# Altium footprint library generic 32u4 lib 1.PcbLib: 18 footprints (part 1 of 2)
Each footprint in its own frame and in the unit in brackets; x right, y up, seen from the top. Pads: shape width x height; smd on the part's side, far side on the other; paste and mask are expansions set on the pad; w line width, h text height; cw(c..) or ccw(c..) is an arc to the next point about the centre after c.
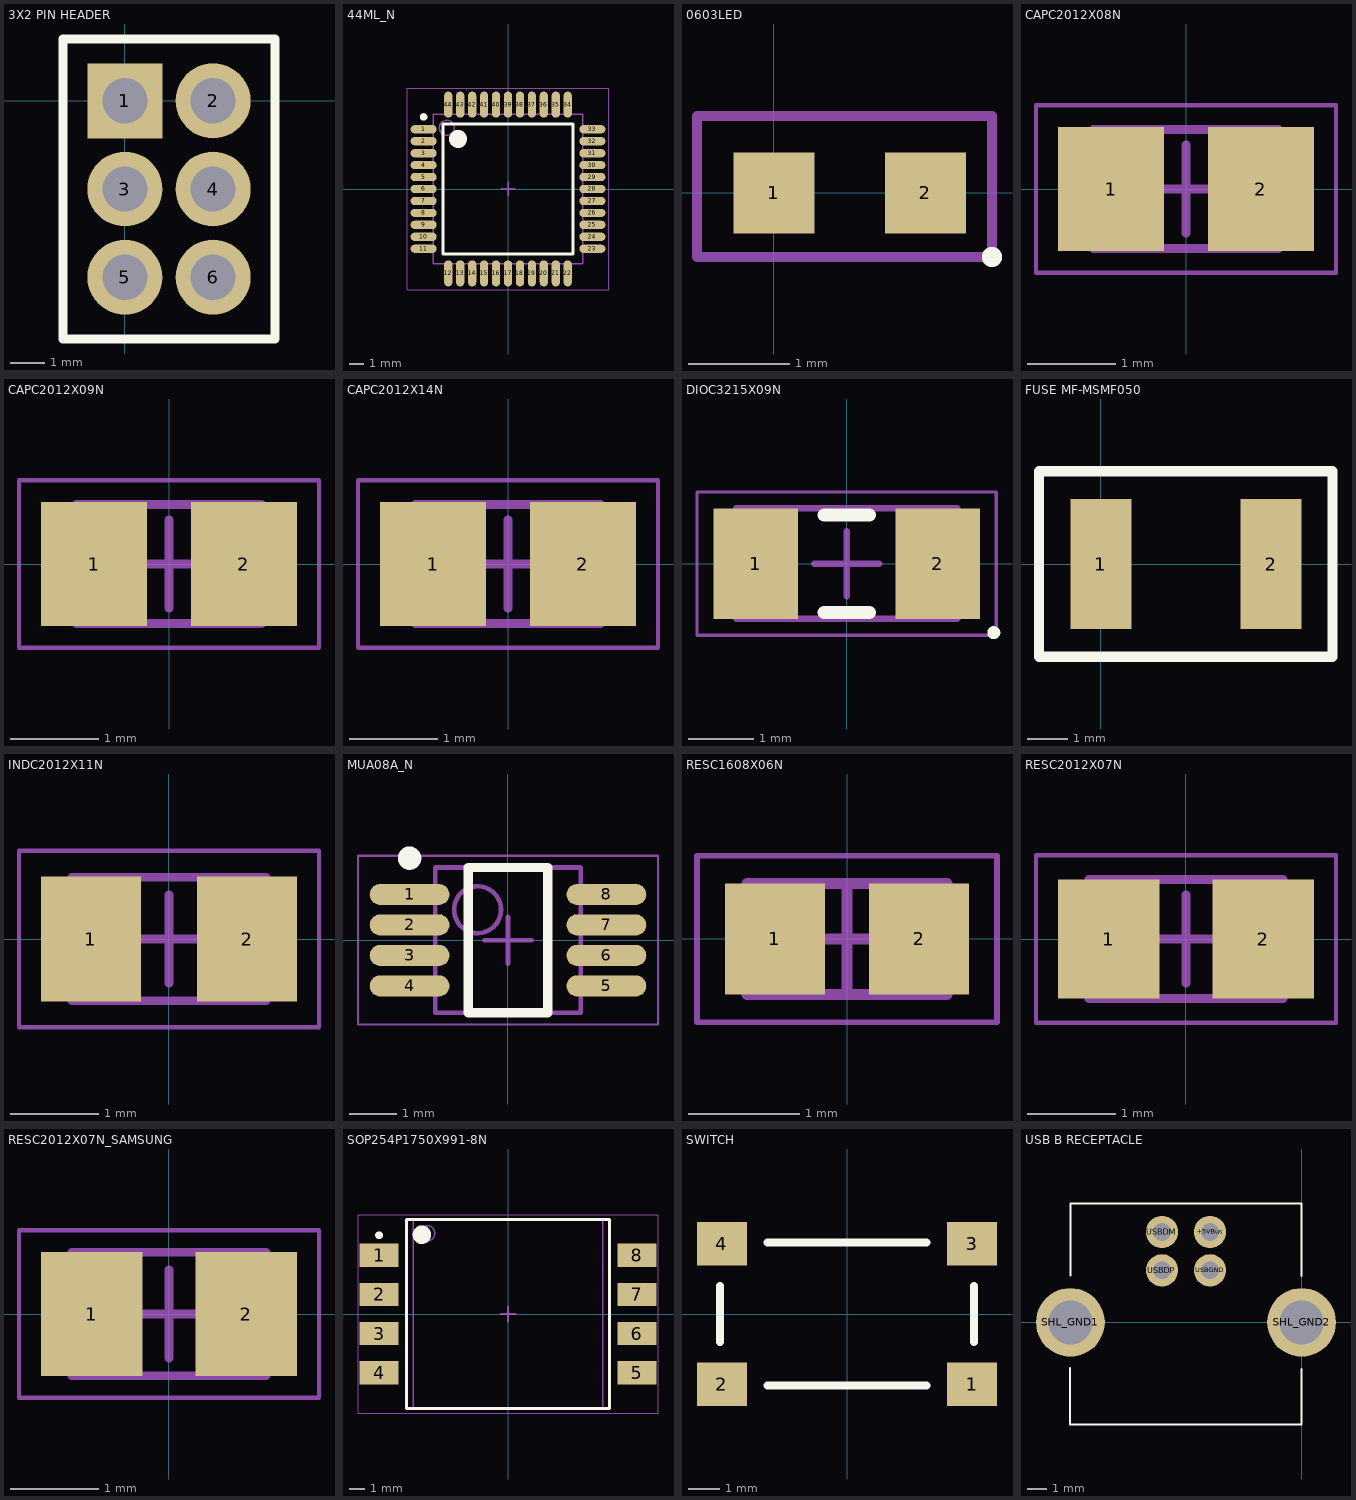
[diagram p0: the footprints below, top view; thin cyan lines are the x and y axes]

## 3X2 PIN HEADER [mil] "0.100\" Pin Header"
height 269.29
pads (6):
  rect 85x85 hole 51.18: 1(0,0)
  round 85 hole 51.18: 2(100,0) 3(0,-100) 4(100,-100) 5(0,-200) 6(100,-200)
Top Overlay:
  lines w10: -70,-270 -70,35 -70,70 170,70 170,-270 -70,-270
  text "." at -120,5 h39.37
3D body "User Library-IDC6.STEP": height 318.07, standoff -115, extent -50,-250 150,50

## 44ML_N [mm] "Thin QFP, 44-Leads, Body 10x10mm, Pitch 0.8mm, IPC Medium Density"
height 1.2
pads (44):
  oval 1.75x0.55 smd: 1(-5.65,4) 2(-5.65,3.2) 3(-5.65,2.4) 4(-5.65,1.6) 5(-5.65,0.8) 6(-5.65,0) 7(-5.65,-0.8) 8(-5.65,-1.6) 9(-5.65,-2.4) 10(-5.65,-3.2) 11(-5.65,-4) 23(5.65,-4) 24(5.65,-3.2) 25(5.65,-2.4) 26(5.65,-1.6) 27(5.65,-0.8) 28(5.65,0) 29(5.65,0.8) 30(5.65,1.6) 31(5.65,2.4) 32(5.65,3.2) 33(5.65,4)
  oval 0.55x1.75 smd: 12(-4,-5.65) 13(-3.2,-5.65) 14(-2.4,-5.65) 15(-1.6,-5.65) 16(-0.8,-5.65) 17(0,-5.65) 18(0.8,-5.65) 19(1.6,-5.65) 20(2.4,-5.65) 21(3.2,-5.65) 22(4,-5.65) 34(4,5.65) 35(3.2,5.65) 36(2.4,5.65) 37(1.6,5.65) 38(0.8,5.65) 39(0,5.65) 40(-0.8,5.65) 41(-1.6,5.65) 42(-2.4,5.65) 43(-3.2,5.65) 44(-4,5.65)
Top Overlay:
  circle w0.6: c-3.35,3.35 r0.3
  circle w0.25: c-5.65,4.825 r0.125
  lines w0.2: -4.35,-4.35 4.35,-4.35 4.35,4.35 -4.35,4.35 -4.35,-4.35
Top Solder:
  rectangle: -4.394,4.674 4.394,6.629
  rectangle: -4.394,-6.629 4.394,-4.674
  region: 6.629,-4.394 6.629,4.394 4.674,4.394 4.674,-4.394
  region: -4.674,-4.394 -4.674,4.394 -6.629,4.394 -6.629,-4.394
Mechanical 13:
  circle w0.1: c-4.1,4.1 r0.5
  lines w0.1: -5,-5 5,-5 5,5 -5,5 -5,-5
Mechanical 15:
  lines w0.05: -6.75,-6.75 6.75,-6.75 6.75,6.75 -6.75,6.75 -6.75,-6.75
  lines w0.1: -0.5,0 0.5,0 ; 0,-0.5 0,0.5
3D body: height 1.2, standoff 0, extent -5,-5 5,5

## 0603LED [mm] "0603LED"
height 0.67
pads (2):
  rect 0.8x0.8 smd: 1(0,0) 2(1.5,0)
Top Overlay:
  circle w0.1: c2.159,-0.635 r0.05
Mechanical 15:
  lines w0.1: -0.762,-0.635 -0.762,0.762 2.159,0.762 2.159,-0.635 -0.762,-0.635
3D body "User Library-LED_0603_R.STEP": height 0.6, standoff 0, extent -0.038,-0.403 1.562,0.397

## CAPC2012X08N [mm] "Chip Capacitor, 2-Leads, Body 2.00x1.25mm, IPC Medium Density"
height 0.75
pads (2):
  rect 1.2x1.4 smd: 1(-0.85,0) 2(0.85,0)
Mechanical 13:
  lines w0.1: -1.05,-0.675 1.05,-0.675 1.05,0.675 -1.05,0.675 -1.05,-0.675
Mechanical 15:
  lines w0.05: -1.7,-0.95 1.7,-0.95 1.7,0.95 -1.7,0.95 -1.7,-0.95
  lines w0.1: -0.5,0 0.5,0 ; 0,-0.5 0,0.5
3D body "CAPC2012X08N.step": height 0.75, standoff 0, extent -1.05,-0.675 1.05,0.675

## CAPC2012X09N [mm] "Chip Capacitor, 2-Leads, Body 2.00x1.25mm, IPC Medium Density"
height 0.95
pads (2):
  rect 1.2x1.4 smd: 1(-0.85,0) 2(0.85,0)
Mechanical 13:
  lines w0.1: -1.05,-0.675 1.05,-0.675 1.05,0.675 -1.05,0.675 -1.05,-0.675
Mechanical 15:
  lines w0.05: -1.7,-0.95 1.7,-0.95 1.7,0.95 -1.7,0.95 -1.7,-0.95
  lines w0.1: -0.5,0 0.5,0 ; 0,-0.5 0,0.5
3D body "CAPC2012X09N.step": height 0.95, standoff 0, extent -1.05,-0.675 1.05,0.675

## CAPC2012X14N [mm] "Chip Capacitor, 2-Leads, Body 2.00x1.25mm, IPC Medium Density"
height 1.35
pads (2):
  rect 1.2x1.4 smd: 1(-0.85,0) 2(0.85,0)
Mechanical 13:
  lines w0.1: -1.05,-0.675 -1.05,0.675 1.05,0.675 1.05,-0.675 -1.05,-0.675
Mechanical 15:
  lines w0.05: -1.7,-0.95 -1.7,0.95 1.7,0.95 1.7,-0.95 -1.7,-0.95
  lines w0.1: -0.5,0 0.5,0 ; 0,-0.5 0,0.5
3D body "CAPC2012X14N.step": height 1.35, standoff 0, extent -1.05,-0.675 1.05,0.675

## DIOC3215X09N [mm] "Chip Diode, 2-Leads, Body 3.20x1.50mm, IPC Medium Density"
height 0.95
pads (2):
  rect 1.3x1.7 smd: 1(-1.4,0) 2(1.4,0)
Top Overlay:
  circle w0.1: c2.262,-1.062 r0.05
  lines w0.2: -0.35,-0.75 0.35,-0.75 ; -0.35,0.75 0.35,0.75
Mechanical 13:
  lines w0.1: -1.7,-0.85 1.7,-0.85 1.7,0.85 -1.7,0.85 -1.7,-0.85
Mechanical 15:
  lines w0.05: -2.3,-1.1 2.3,-1.1 2.3,1.1 -2.3,1.1 -2.3,-1.1
  lines w0.1: -0.5,0 0.5,0 ; 0,-0.5 0,0.5
3D body "DIOC3215X09N.step": height 0.95, standoff 0, extent -1.7,-0.85 1.7,0.85

## FUSE MF-MSMF050 [mm]
height 0.033
pads (2):
  rect 1.5x3.2 smd: 1(0,0) 2(4.2,0)
Top Overlay:
  lines w0.254: -1.524,-2.286 -1.524,2.286 5.715,2.286 5.715,-2.286 -1.524,-2.286
3D body "mf-msmf050.stp": height 0.7, standoff 0, extent -0.116,-1.62 4.434,1.62

## INDC2012X11N [mm] "Chip Inductor, 2-Leads, Body 2.00x1.20mm, IPC Medium Density"
height 1.1
pads (2):
  rect 1.13x1.42 smd: 1(-0.885,0) 2(0.885,0)
Mechanical 13:
  lines w0.1: -1.1,-0.7 -1.1,0.7 1.1,0.7 1.1,-0.7 -1.1,-0.7
Mechanical 15:
  lines w0.05: -1.7,-1 -1.7,1 1.7,1 1.7,-1 -1.7,-1
  lines w0.1: -0.5,0 0.5,0 ; 0,-0.5 0,0.5
3D body: height 1.1, standoff 0, extent -0.6,-0.7 0.6,0.7
3D body: height 1.1, standoff 0, extent -1.1,-0.7 -0.6,0.7
3D body: height 1.1, standoff 0, extent 0.6,-0.7 1.1,0.7

## MUA08A_N [mm] "TSOP, 8-Leads, Body 3x3mm, Pitch 0.65mm, IPC Medium Density"
height 1.09
pads (8):
  oval 1.7x0.45 smd: 1(-2.1,0.975) 2(-2.1,0.325) 3(-2.1,-0.325) 4(-2.1,-0.975) 5(2.1,-0.975) 6(2.1,-0.325) 7(2.1,0.325) 8(2.1,0.975)
Top Overlay:
  circle w0.25: c-2.1,1.75 r0.125
  lines w0.2: -0.85,-1.55 -0.85,1.55 0.85,1.55 0.85,-1.55 -0.85,-1.55
Mechanical 13:
  circle w0.1: c-0.65,0.65 r0.5
  lines w0.1: -1.55,-1.55 -1.55,1.55 1.55,1.55 1.55,-1.55 -1.55,-1.55
Mechanical 15:
  lines w0.05: -3.2,-1.8 -3.2,1.8 3.2,1.8 3.2,-1.8 -3.2,-1.8
  lines w0.1: -0.5,0 0.5,0 ; 0,-0.5 0,0.5
3D body: height 1.09, standoff 0.06, extent -1.55,-1.55 1.55,1.55

## RESC1608X06N [mm] "Chip Resistor, 2-Leads, Body 1.60x0.80mm, IPC Medium Density"
height 0.55
pads (2):
  rect 0.9x1 smd: 1(-0.65,0) 2(0.65,0)
Mechanical 13:
  lines w0.1: -0.9,-0.5 -0.9,0.5 0.9,0.5 0.9,-0.5 -0.9,-0.5
Mechanical 15:
  lines w0.05: -1.35,-0.75 -1.35,0.75 1.35,0.75 1.35,-0.75 -1.35,-0.75
  lines w0.1: -0.5,0 0.5,0 ; 0,-0.5 0,0.5
3D body: height 0.55, standoff 0, extent -0.6,-0.5 0.6,0.5
3D body: height 0.55, standoff 0, extent -0.9,-0.5 -0.6,0.5
3D body: height 0.55, standoff 0, extent 0.6,-0.5 0.9,0.5

## RESC2012X07N [mm] "Chip Resistor, 2-Leads, Body 2.00x1.25mm, IPC Medium Density"
height 0.7
pads (2):
  rect 1.15x1.35 smd: 1(-0.875,0) 2(0.875,0)
Mechanical 13:
  lines w0.1: -1.1,-0.675 1.1,-0.675 1.1,0.675 -1.1,0.675 -1.1,-0.675
Mechanical 15:
  lines w0.05: -1.7,-0.95 1.7,-0.95 1.7,0.95 -1.7,0.95 -1.7,-0.95
  lines w0.1: -0.5,0 0.5,0 ; 0,-0.5 0,0.5
3D body: height 0.7, standoff 0, extent 0.7,-0.675 1.1,0.675
3D body: height 0.7, standoff 0, extent -1.1,-0.675 -0.7,0.675
3D body: height 0.7, standoff 0, extent -0.7,-0.675 0.7,0.675

## RESC2012X07N_SAMSUNG [mm] "Chip Resistor, 2-Leads, Body 2.00x1.25mm, IPC Medium Density"
height 0.65
pads (2):
  rect 1.15x1.4 smd: 1(-0.875,0) 2(0.875,0)
Mechanical 13:
  lines w0.1: -1.1,-0.7 -1.1,0.7 1.1,0.7 1.1,-0.7 -1.1,-0.7
Mechanical 15:
  lines w0.05: -1.7,-0.95 -1.7,0.95 1.7,0.95 1.7,-0.95 -1.7,-0.95
  lines w0.1: -0.5,0 0.5,0 ; 0,-0.5 0,0.5
3D body "RESC2012X07N_0-OHM-JMP.step": height 0.65, standoff 0, extent -1.1,-0.7 1.1,0.7

## SOP254P1750X991-8N [mm] "SOP, 8-Leads, Body 12.07x12.07mm, Pitch 2.54mm, IPC Medium Density"
height 9.91
pads (8):
  rect 2.54x1.52 smd: 1(-8.38,3.81) 2(-8.38,1.27) 3(-8.38,-1.27) 4(-8.38,-3.81) 5(8.38,-3.81) 6(8.38,-1.27) 7(8.38,1.27) 8(8.38,3.81)
Top Overlay:
  circle w0.6: c-5.6,5.15 r0.3
  circle w0.25: c-8.38,5.12 r0.125
  lines w0.2: -6.6,-6.15 6.6,-6.15 6.6,6.15 -6.6,6.15 -6.6,-6.15
Mechanical 13:
  circle w0.1: c-5.25,5.25 r0.5
  lines w0.1: -6.15,-6.15 6.15,-6.15 6.15,6.15 -6.15,6.15 -6.15,-6.15
Mechanical 15:
  lines w0.05: -9.75,-6.45 9.75,-6.45 9.75,6.45 -9.75,6.45 -9.75,-6.45
  lines w0.1: -0.5,0 0.5,0 ; 0,-0.5 0,0.5
3D body "SOP254P1750X991-8N.step": height 9.91, standoff 0, extent -8.763,-6.15 8.763,6.15

## SWITCH [mm] "SWITCH"
height 6.3
pads (4):
  rect 1.6x1.4 smd: 1(4,-2.25) 2(-4,-2.25) 3(4,2.25) 4(-4,2.25)
Top Overlay:
  lines w0.254: -4.064,-0.889 -4.064,0.889 ; -2.54,-2.286 2.54,-2.286 ; -2.54,2.286 2.54,2.286 ; 4.064,-0.889 4.064,0.889
3D body "B3FS_101[].step": height 4.3, standoff 0, extent -4,-3.15 4,3.15

## USB B RECEPTACLE [mm] "Amphenol 61729-1011BLF"
height 10.5
pads (6):
  round 1.682 hole 0.92: +5VBus(-4.77,4.71) USBDM(-7.27,4.71) USBDP(-7.27,2.71) USBGND(-4.77,2.71)
  round 3.581 hole 2.3: SHL_GND1(-12.04,0) SHL_GND2(0,0)
Top Overlay:
  lines w0.1: -12.065,-2.374 -12.065,-5.32 0,-5.32 0,-2.413 ; -12.04,2.438 -12.04,6.195 0,6.195 0,2.413
3D body "COLOR29.STEP": height 11, standoff -2.8, extent -12.612,-10.129 0.508,5.811